# EAGLE library part TS51223 (library (custom)-new-components)
TS51223 is a fully-integrated wireless power receiver for low-power, wearable applications that require a low-cost and space-saving solution. The TS51223 can operate by itself as a single-chip wireless power receiver in proprietary applications.
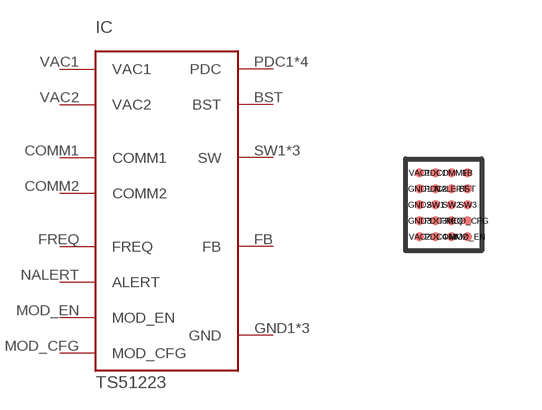
[diagram p4: symbol with the pads of TS51223; footprint TS51223]

Designator prefix IC

## TS51223  [TS51223]
BST  BST
COMM1  COMM1
COMM2  COMM2
FB  FB
FREQ  FREQ
GND1  GND
GND2  GND
GND3  GND
MOD_CFG  MOD_CFG
MOD_EN  MOD_EN
NALERT  ALERT
PDC1  PDC
PDC2  PDC
PDC3  PDC
PDC4  PDC
SW1  SW
SW2  SW
SW3  SW
VAC1  VAC1
VAC2  VAC2

## Footprint TS51223 (pad centres in mm)
smd 0.21 x 0.21: BST 1.2,1.2; COMM1 0.8,1.6; COMM2 0.8,0; FB 1.2,1.6; FREQ 0.8,0.4; GND1 0,1.2; GND2 0,0.8; GND3 0,0.4; MOD_CFG 1.2,0.4; MOD_EN 1.2,0; NALERT 0.8,1.2; PDC1 0.4,1.6; PDC2 0.4,1.2; PDC3 0.4,0.4; PDC4 0.4,0; SW1 0.4,0.8; SW2 0.8,0.8; SW3 1.2,0.8; VAC1 0,1.6; VAC2 0,0